# Altium footprint library CAP AL TH D25 L12.5 H42.PCBLIB: 1 footprints
Each footprint in its own frame and in the unit in brackets; x right, y up, seen from the top. Pads: shape width x height; smd on the part's side, far side on the other; paste and mask are expansions set on the pad; w line width, h text height; cw(c..) or ccw(c..) is an arc to the next point about the centre after c.
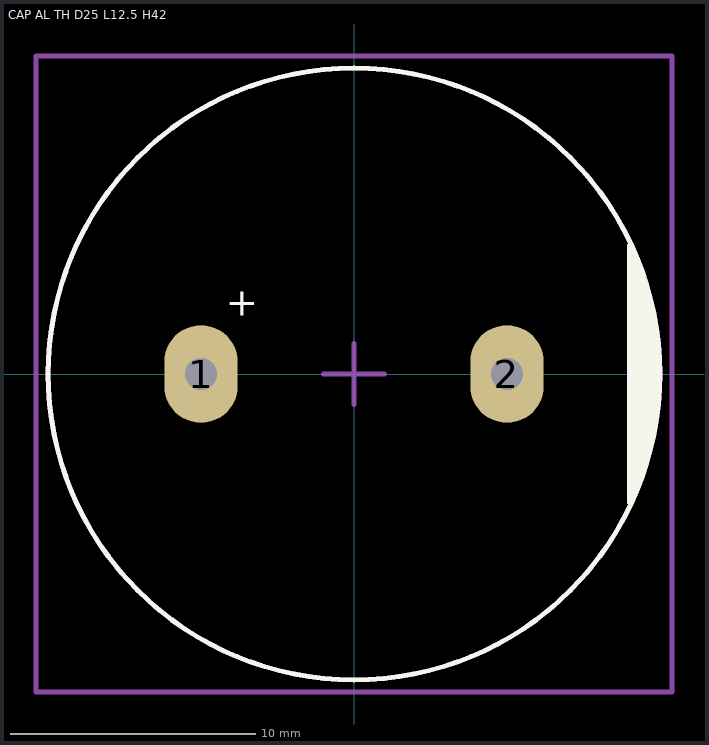
[diagram p0: the footprint, top view; thin cyan lines are the x and y axes]

## CAP AL TH D25 L12.5 H42 [mm] "16MM Diameter, 7.5MM Lead Spacing Aluminium Capacitor"
height 42
pads (2):
  oval 3x4 hole 1.3: 1(-6.25,0) 2(6.25,0)
Top Overlay:
  circle w0.2: c0,0 r12.5
  region: 11.25,-5.25 11.25,5.375 12,3.5 12.25,2.5 12.5,1 12.5,0 12.5,-1 12,-3.5
  lines w0.2: 11.25,-5.25 11.25,5.25
  text "+" at -5.25,2 h2
Mechanical 13:
  circle w0.2: c0,0 r12.5
  lines w0.2: 11.25,-5.25 11.25,5.25
Mechanical 15:
  lines w0.2: -1.25,0 1.25,0 ; 0,-1.25 0,1.25 ; -13,-13 -13,13 13,13 13,-13 -13,-13
3D body "CAP ALTH D-25MM L-12.5MM H-42MM.STEP": height 42.2, standoff -3, extent -12.5,-12.491 12.5,12.492